# Altium footprint library ANTC1608X40N.PcbLib: 1 footprints
Each footprint in its own frame and in the unit in brackets; x right, y up, seen from the top. Pads: shape width x height; smd on the part's side, far side on the other; paste and mask are expansions set on the pad; w line width, h text height; cw(c..) or ccw(c..) is an arc to the next point about the centre after c.
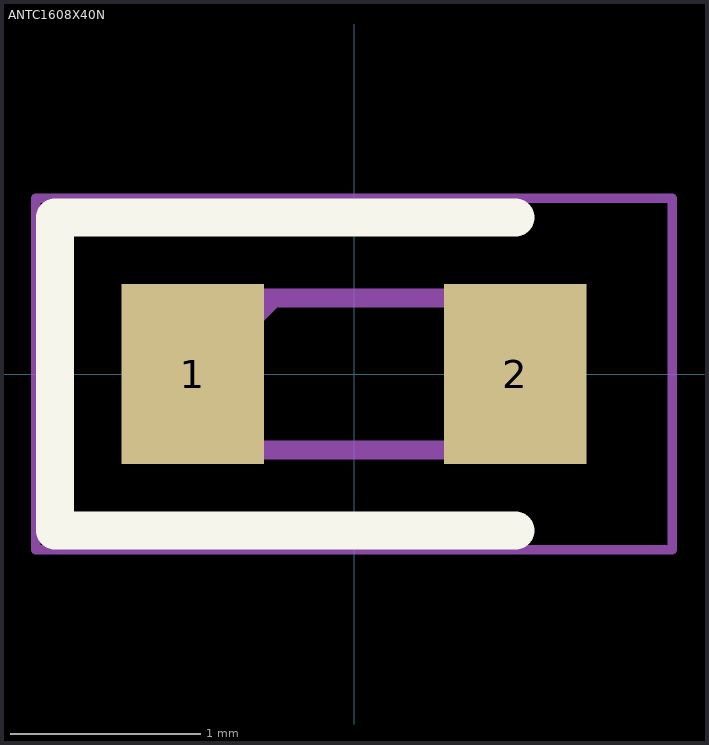
[diagram p0: the footprint, top view; thin cyan lines are the x and y axes]

## ANTC1608X40N [mm]
pads (2):
  rect 0.75x0.95 smd: 1(-0.85,0) 2(0.85,0)
Top Overlay:
  lines w0.2: 0.85,-0.825 -1.575,-0.825 -1.575,0.825 0.85,0.825
Mechanical 15:
  lines w0.1: -0.8,0.025 -0.425,0.4 ; -0.8,-0.4 0.8,-0.4 0.8,0.4 -0.8,0.4 -0.8,-0.4
Mechanical 20:
  lines w0.05: -1.675,-0.925 1.675,-0.925 1.675,0.925 -1.675,0.925 -1.675,-0.925